# EAGLE library part ARDUIN-MINIPRO-BASE (library gclueParts)
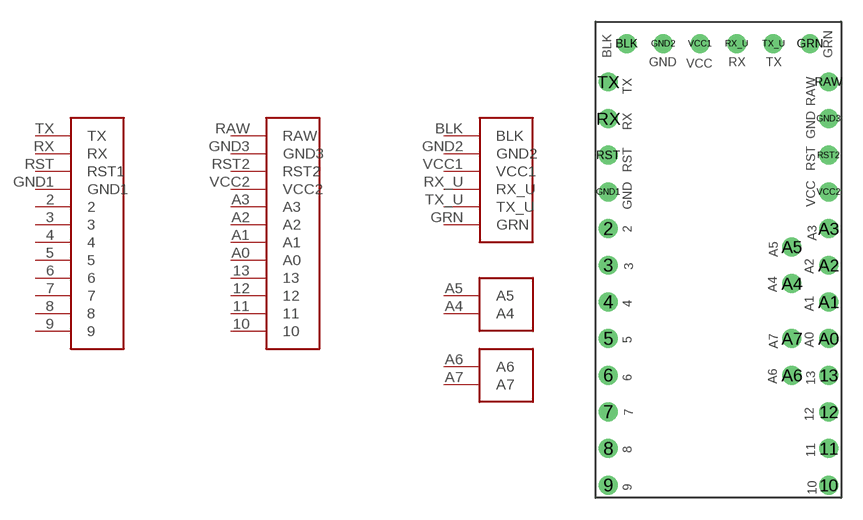
[diagram p3: symbol with the pads of ARDUINO-MINIPRO-BASE; footprint ARDUINO-MINIPRO-BASE]

Designator prefix -

## ARDUIN-MINIPRO-BASE  [ARDUINO-MINIPRO-BASE]
2  2
3  3
4  4
5  5
6  6
7  7
8  8
9  9
10  10
11  11
12  12
13  13
A0  A0
A1  A1
A2  A2
A3  A3
A4  A4
A5  A5
A6  A6
A7  A7
BLK  BLK
GND1  GND1
GND2  GND2
GND3  GND3
GRN  GRN
RAW  RAW
RST  RST1
RST2  RST2
RX  RX
RX_U  RX_U
TX  TX
TX_U  TX_U
VCC1  VCC1
VCC2  VCC2

## Footprint ARDUINO-MINIPRO-BASE (pad centres in mm)
drill 0.8: 2 -7.625,2.16; 3 -7.625,-0.38; 4 -7.625,-2.92; 5 -7.625,-5.46; 6 -7.625,-8; 7 -7.625,-10.54; 8 -7.625,-13.08; 9 -7.625,-15.62; 10 7.625,-15.62; 11 7.625,-13.08; 12 7.625,-10.54; 13 7.625,-8; A0 7.625,-5.46; A1 7.625,-2.92; A2 7.625,-0.38; A3 7.625,2.16; A4 5.085,-1.65; A5 5.085,0.89; A6 5.085,-8; A7 5.085,-5.46; BLK -6.36,14.975; GND1 -7.625,4.7; GND2 -3.82,14.975; GND3 7.625,9.78; GRN 6.34,14.975; RAW 7.625,12.32; RST -7.625,7.24; RST2 7.625,7.24; RX -7.625,9.78; RX_U 1.26,14.975; TX -7.625,12.32; TX_U 3.8,14.975; VCC1 -1.28,14.975; VCC2 7.625,4.7